# EAGLE library part FT245R (library monome)
USB FIFO 2nd Generation USB FIFO (USB <-> Parallel)
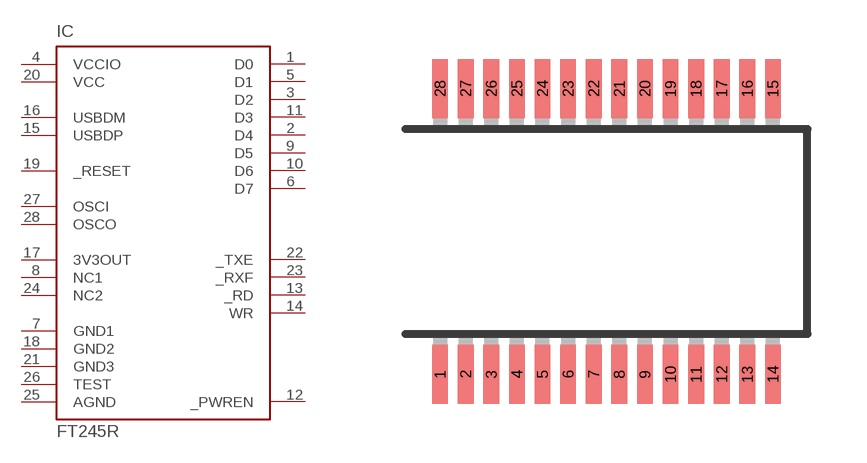
[diagram p0: symbol with the pads of SSOP28; footprint SSOP28]

Designator prefix IC

## FT245R  [SSOP28]
1  D0
2  D4
3  D2
4  VCCIO
5  D1
6  D7
7  GND1  pwr
8  NC1  nc
9  D5
10  D6
11  D3
12  _PWREN
13  _RD  in
14  WR  in
15  USBDP
16  USBDM
17  3V3OUT
18  GND2  pwr
19  _RESET  pas
20  VCC  pwr
21  GND3  pwr
22  _TXE  out
23  _RXF  out
24  NC2  nc
25  AGND
26  TEST
27  OSCI  pas
28  OSCO  pas

## Footprint SSOP28 (pad centres in mm)
Shrink Small Outline Package package type SS
smd 0.4 x 1.5: 1 -4.225,-3.625; 2 -3.575,-3.625; 3 -2.925,-3.625; 4 -2.275,-3.625; 5 -1.625,-3.625; 6 -0.975,-3.625; 7 -0.325,-3.625; 8 0.325,-3.625; 9 0.975,-3.625; 10 1.625,-3.625; 11 2.275,-3.625; 12 2.925,-3.625; 13 3.575,-3.625; 14 4.225,-3.625; 15 4.225,3.625; 16 3.575,3.625; 17 2.925,3.625; 18 2.275,3.625; 19 1.625,3.625; 20 0.975,3.625; 21 0.325,3.625; 22 -0.325,3.625; 23 -0.975,3.625; 24 -1.625,3.625; 25 -2.275,3.625; 26 -2.925,3.625; 27 -3.575,3.625; 28 -4.225,3.625